# Altium schematic symbol library TRS_JFET_P.SchLib: 1 symbol
Pins are listed as number, name and electrical type; pins without a type are passive.

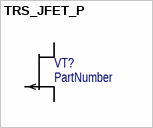
[diagram p0: symbol TRS_JFET_P]

## TRS_JFET_P
designator VT?  (value not drawn)
JFET P-канальный транзистор (дезигнаторы буквенные G/D/S); PartNumber: PartNumber
pins: D, G, S